# EAGLE library part LM335D (library ST_Microelctronics_By_element14_Batch_1)
Precision temperature sensors
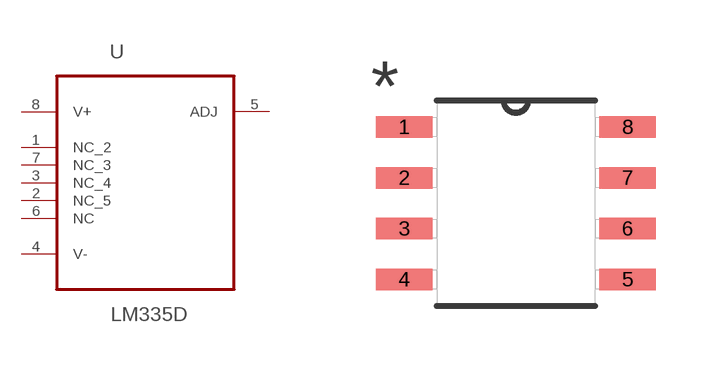
[diagram p118: symbol with the pads of SOIC127P600X175-8N; footprint SOIC127P600X175-8N]

Designator prefix U

## LM335D (MPN: LM335D; OC_FARNELL: 1094250; OC_NEWARK: 26M0383; PACKAGE: SOIC-8; SUPPLIER: STMICROELECTRONICS)  [SOIC127P600X175-8N]
1  NC_2  nc
2  NC_5  nc
3  NC_4  nc
4  V-  pwr
5  ADJ  pas
6  NC  nc
7  NC_3  nc
8  V+  pwr

## Footprint SOIC127P600X175-8N (pad centres in mm)
smd 1.422 x 0.533: 1 -2.794,1.905; 2 -2.794,0.635; 3 -2.794,-0.635; 4 -2.794,-1.905; 5 2.794,-1.905; 6 2.794,-0.635; 7 2.794,0.635; 8 2.794,1.905